# Altium schematic symbol library PDSE1-S5-S15-S.SCHLIB: 1 symbol
Pins are listed as number, name and electrical type; pins without a type are passive.

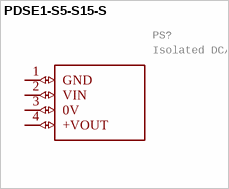
[diagram p0: symbol PDSE1-S5-S15-S]

## PDSE1-S5-S15-S
designator PS?, comment Isolated DC/DC Converters dc-dc isolated, 1 W, 4.5 5.5 Vdc input, 15 Vdc, 0.067 A, single unregulated output, SIP   Source:  Datasheet
Manufacturer_Name: CUI Inc.; GateName_1: G$1; SymbolName_1: PDSE1-S5-S15-S; LibraryName: PDSE1-S5-S15-S; DeviceSetName: PDSE1-S5-S15-S; Package: PDSE1S5S15S; Manufacturer_Part_Number: PDSE1-S5-S15-S; Description: Isolated DC/DC Converters dc-dc isolated, 1 W, 4.5 5.5 Vdc input, 15 Vdc, 0.067 A, single unregulated output, SIP; Height: 10.41mm
footprint PDSE1S5S15S
pins: 1 GND (io), 2 VIN (io), 3 0V (io), 4 +VOUT (io)